# Altium schematic symbol library MIC26903YJL-TR.SchLib: 1 symbol
Pins are listed as number, name and electrical type; pins without a type are passive.

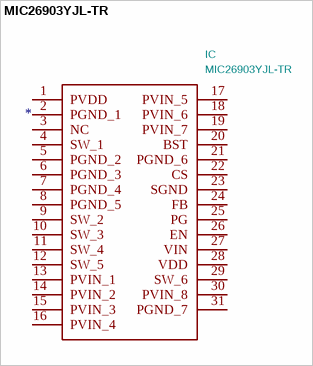
[diagram p0: symbol MIC26903YJL-TR]

## MIC26903YJL-TR
designator IC  value MIC26903YJL-TR
Switching Voltage Regulators 28V, 9A HyperLight Load  Synchronous DC/DC Buck Regulator SuperSwitcher IIG; Manufacturer_Name: Micrel; Footprint: MIC24054YJLTR; Supplier: http://www.mouser.com/datasheet/2/268/MIC26903-778571.pdf; Description_: Switching Voltage Regulators 28V, 9A HyperLight Load  Synchronous DC/DC Buck Regulator SuperSwitcher IIG; Height: 2; Manufacturer_Part_Number: MIC26903YJL-TR; Mouser Part Number: 998-MIC26903YJLTR; Mouser Price/Stock: https://www.mouser.com/Search/Refine.aspx?Keyword=998-MIC26903YJLTR
footprint MIC24054YJLTR
pins: 1 PVDD, 2 PGND_1, 3 NC, 4 SW_1, 5 PGND_2, 6 PGND_3, 7 PGND_4, 8 PGND_5, 9 SW_2, 10 SW_3, 11 SW_4, 12 SW_5, 13 PVIN_1, 14 PVIN_2, 15 PVIN_3, 16 PVIN_4, 17 PVIN_5, 18 PVIN_6, 19 PVIN_7, 20 BST, 21 PGND_6, 22 CS, 23 SGND, 24 FB, 25 PG, 26 EN, 27 VIN, 28 VDD, 29 SW_6, 30 PVIN_8, 31 PGND_7